# EAGLE library part AS6C1008 (library sd_tos)
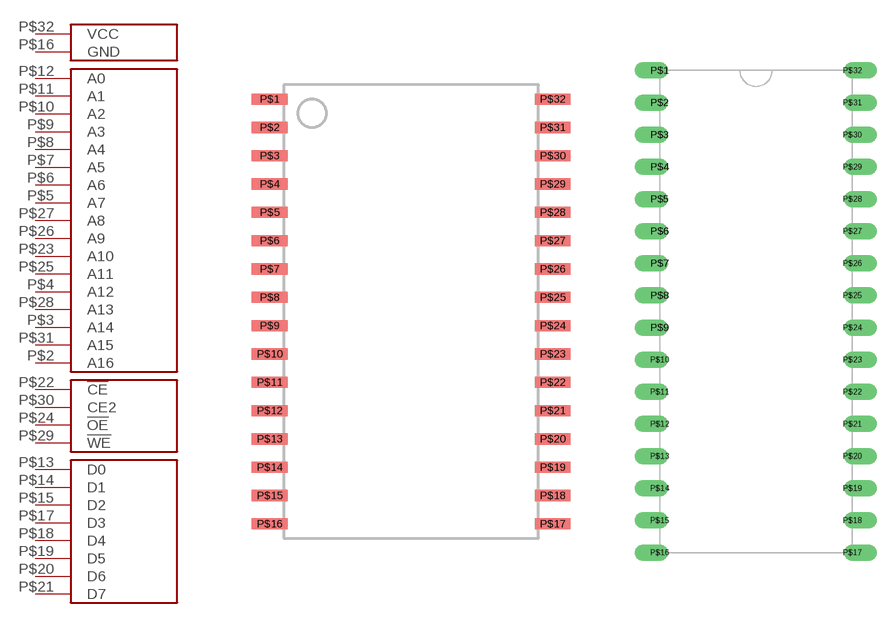
[diagram p2: symbol with the pads of SOP32L; footprints SOP32L, DIP32]

Designator prefix -

## AS6C1008SOP32L  [SOP32L]
P$2  A16
P$3  A14
P$4  A12
P$5  A7
P$6  A6
P$7  A5
P$8  A4
P$9  A3
P$10  A2
P$11  A1
P$12  A0
P$13  D0
P$14  D1
P$15  D2
P$16  GND
P$17  D3
P$18  D4
P$19  D5
P$20  D6
P$21  D7
P$22  !CE
P$23  A10
P$24  !OE
P$25  A11
P$26  A9
P$27  A8
P$28  A13
P$29  !WE
P$30  CE2
P$31  A15
P$32  VCC

## AS6C1008DIP32  [DIP32]
Pads as for SOP32L

## Footprint SOP32L (pad centres in mm)
smd 1.6 x 0.5: P$1 -7.62,12.7; P$2 -7.62,11.43; P$3 -7.62,10.16; P$4 -7.62,8.89; P$5 -7.62,7.62; P$6 -7.62,6.35; P$7 -7.62,5.08; P$8 -7.62,3.81; P$9 -7.62,2.54; P$10 -7.62,1.27; P$11 -7.62,0; P$12 -7.62,-1.27; P$13 -7.62,-2.54; P$14 -7.62,-3.81; P$15 -7.62,-5.08; P$16 -7.62,-6.35; P$17 5.08,-6.35; P$18 5.08,-5.08; P$19 5.08,-3.81; P$20 5.08,-2.54; P$21 5.08,-1.27; P$22 5.08,0; P$23 5.08,1.27; P$24 5.08,2.54; P$25 5.08,3.81; P$26 5.08,5.08; P$27 5.08,6.35; P$28 5.08,7.62; P$29 5.08,8.89; P$30 5.08,10.16; P$31 5.08,11.43; P$32 5.08,12.7

## Footprint DIP32 (pad centres in mm)
drill 0.8 pad 1.27 offset: P$1 -7.62,20.32; P$2 -7.62,17.78; P$3 -7.62,15.24; P$4 -7.62,12.7; P$5 -7.62,10.16; P$6 -7.62,7.62; P$7 -7.62,5.08; P$8 -7.62,2.54; P$9 -7.62,0; P$10 -7.62,-2.54; P$11 -7.62,-5.08; P$12 -7.62,-7.62; P$13 -7.62,-10.16; P$14 -7.62,-12.7; P$15 -7.62,-15.24; P$16 -7.62,-17.78; P$17 7.62,-17.78; P$18 7.62,-15.24; P$19 7.62,-12.7; P$20 7.62,-10.16; P$21 7.62,-7.62; P$22 7.62,-5.08; P$23 7.62,-2.54; P$24 7.62,0; P$25 7.62,2.54; P$26 7.62,5.08; P$27 7.62,7.62; P$28 7.62,10.16; P$29 7.62,12.7; P$30 7.62,15.24; P$31 7.62,17.78; P$32 7.62,20.32